# Altium schematic symbol library Quartz.SchLib: 1 symbol
Pins are listed as number, name and electrical type; pins without a type are passive.

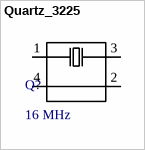
[diagram p0: symbol Quartz_3225]

## Quartz_3225
designator Q?, comment 16 MHz
footprint Qu_3225
pins: 1 Osc1, 2 Gnd, 3 Osc2, 4 Gnd